# Altium schematic symbol library Transistores RF.SchLib: 1 symbol
Pins are listed as number, name and electrical type; pins without a type are passive.

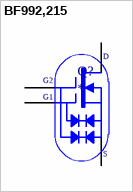
[diagram p0: symbol BF992,215]

## BF992,215
designator Q?
datasheet: https://www.mouser.es/datasheet/2/302/BF992_N-1667957.pdf; ComponentLink1Description: mouser; ComponentLink1URL: https://www.mouser.es/ProductDetail/NXP-Semiconductors/BF992215?qs=me8TqzrmIYX1pLkOHRhGLw%3D%3D
footprint SOT143-4
pins: 1 S, 2 D, 3 G2, 4 G1